# Altium footprint library USB Bridge.PcbLib: 22 footprints (part 1 of 2)
Each footprint in its own frame and in the unit in brackets; x right, y up, seen from the top. Pads: shape width x height; smd on the part's side, far side on the other; paste and mask are expansions set on the pad; w line width, h text height; cw(c..) or ccw(c..) is an arc to the next point about the centre after c.
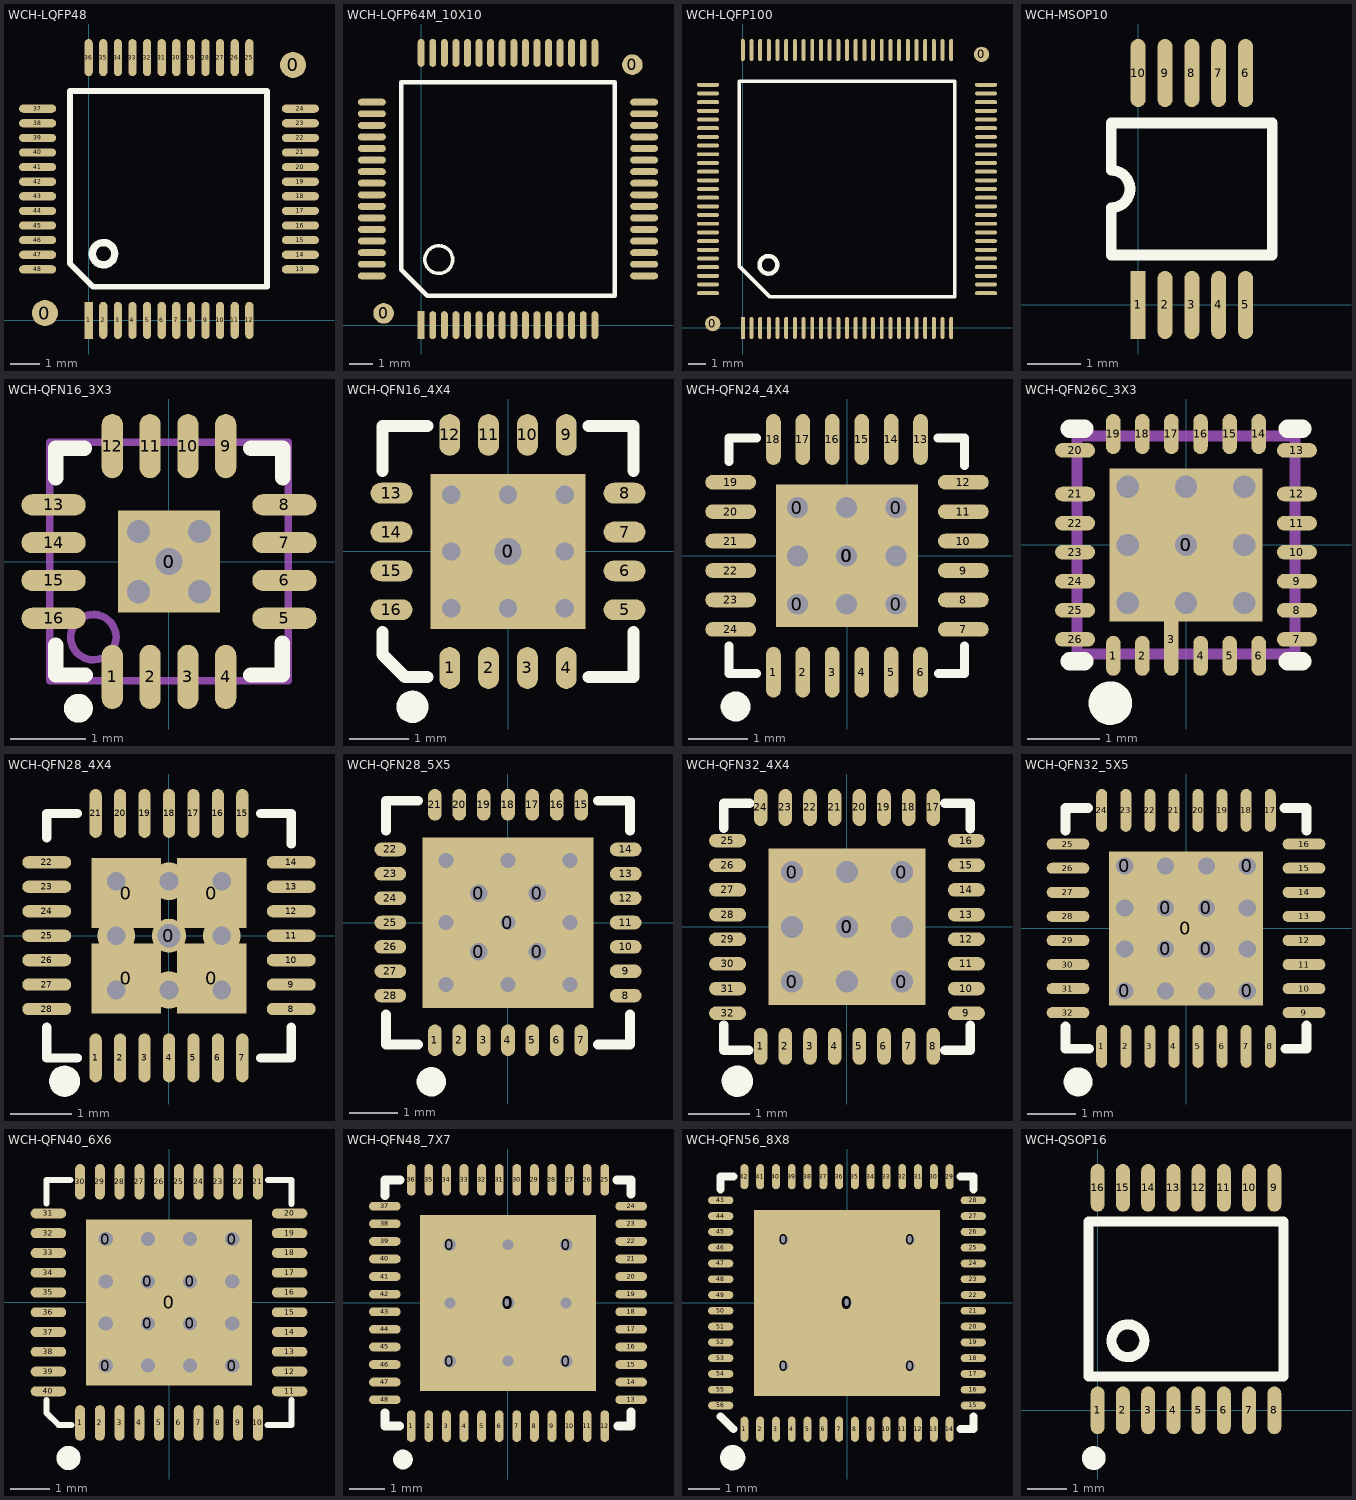
[diagram p0: the footprints below, top view; thin cyan lines are the x and y axes]

## WCH-LQFP48 [mm]
pads (50):
  round 0.889 smd: 0(-1.496,0.254) 0(6.996,8.746)
  rect 0.28x1.27 smd mask+0.051: 1(0,0)
  oval 0.28x1.27 smd mask+0.051: 2(0.5,0) 3(1,0) 4(1.5,0) 5(2,0) 6(2.5,0) 7(3,0) 8(3.5,0) 9(4,0) 10(4.5,0) 11(5,0) 12(5.5,0) 25(5.5,9) 26(5,9) 27(4.5,9) 28(4,9) 29(3.5,9) 30(3,9) 31(2.5,9) 32(2,9) 33(1.5,9) 34(1,9) 35(0.5,9) 36(0,9)
  oval 1.27x0.28 smd mask+0.051: 13(7.25,1.75) 14(7.25,2.25) 15(7.25,2.75) 16(7.25,3.25) 17(7.25,3.75) 18(7.25,4.25) 19(7.25,4.75) 20(7.25,5.25) 21(7.25,5.75) 22(7.25,6.25) 23(7.25,6.75) 24(7.25,7.25) 37(-1.75,7.25) 38(-1.75,6.75) 39(-1.75,6.25) 40(-1.75,5.75) 41(-1.75,5.25) 42(-1.75,4.75) 43(-1.75,4.25) 44(-1.75,3.75) 45(-1.75,3.25) 46(-1.75,2.75) 47(-1.75,2.25) 48(-1.75,1.75)
Top Overlay:
  circle w0.254: c0.508,2.286 r0.381
  lines w0.2: -0.646,1.947 0.148,1.154
  lines w0.203: -0.646,1.947 -0.646,7.859 6.111,7.859 6.111,1.154 0.148,1.154
3D body "LQFP48.STEP": height 1.6, standoff 0, extent -1.75,0 7.25,9

## WCH-LQFP64M_10X10 [mm]
pads (66):
  round 0.889 smd: 0(-1.619,0.508) 0(9.119,11.246)
  rect 0.3x1.2 smd mask+0.051: 1(0,0)
  oval 0.3x1.2 smd mask+0.051: 2(0.5,0) 3(1,0) 4(1.5,0) 5(2,0) 6(2.5,0) 7(3,0) 8(3.5,0) 9(4,0) 10(4.5,0) 11(5,0) 12(5.5,0) 13(6,0) 14(6.5,0) 15(7,0) 16(7.5,0) 33(7.5,11.754) 34(7,11.754) 35(6.5,11.754) 36(6,11.754) 37(5.5,11.754) 38(5,11.754) 39(4.5,11.754) 40(4,11.754) 41(3.5,11.754) 42(3,11.754) 43(2.5,11.754) 44(2,11.754) 45(1.5,11.754) 46(1,11.754) 47(0.5,11.754) 48(0,11.754)
  oval 1.2x0.3 smd mask+0.051: 17(9.627,2.127) 18(9.627,2.627) 19(9.627,3.127) 20(9.627,3.627) 21(9.627,4.127) 22(9.627,4.627) 23(9.627,5.127) 24(9.627,5.627) 25(9.627,6.127) 26(9.627,6.627) 27(9.627,7.127) 28(9.627,7.627) 29(9.627,8.127) 30(9.627,8.627) 31(9.627,9.127) 32(9.627,9.627) 49(-2.127,9.627) 50(-2.127,9.127) 51(-2.127,8.627) 52(-2.127,8.127) 53(-2.127,7.627) 54(-2.127,7.127) 55(-2.127,6.627) 56(-2.127,6.127) 57(-2.127,5.627) 58(-2.127,5.127) 59(-2.127,4.627) 60(-2.127,4.127) 61(-2.127,3.627) 62(-2.127,3.127) 63(-2.127,2.627) 64(-2.127,2.127)
Top Overlay:
  circle w0.152: c0.762,2.829 r0.6
  lines w0.2: -0.865,2.397 -0.865,10.492 8.365,10.492 8.365,1.262 0.27,1.262 -0.865,2.397
3D body "LQFP64.STEP": height 1.6, standoff 0, extent -2.25,-0.13 9.75,11.87

## WCH-LQFP100 [mm]
pads (102):
  round 0.889 smd: 0(-1.727,0.254) 0(13.746,15.748)
  rect 0.229x1.27 smd mask+0.051: 1(0,0)
  oval 0.229x1.27 smd mask+0.051: 2(0.5,0) 3(1,0) 4(1.5,0) 5(2,0) 6(2.5,0) 7(3,0) 8(3.5,0) 9(4,0) 10(4.5,0) 11(5,0) 12(5.5,0) 13(6,0) 14(6.5,0) 15(7,0) 16(7.5,0) 17(8,0) 18(8.5,0) 19(9,0) 20(9.5,0) 21(10,0) 22(10.5,0) 23(11,0) 24(11.5,0) 25(12,0) 51(12,16) 52(11.5,16) 53(11,16) 54(10.5,16) 55(10,16) 56(9.5,16) 57(9,16) 58(8.5,16) 59(8,16) 60(7.5,16) 61(7,16) 62(6.5,16) 63(6,16) 64(5.5,16) 65(5,16) 66(4.5,16) 67(4,16) 68(3.5,16) 69(3,16) 70(2.5,16) 71(2,16) 72(1.5,16) 73(1,16) 74(0.5,16) 75(0,16)
  oval 1.27x0.229 smd mask+0.051: 26(14,2) 27(14,2.5) 28(14,3) 29(14,3.5) 30(14,4) 31(14,4.5) 32(14,5) 33(14,5.5) 34(14,6) 35(14,6.5) 36(14,7) 37(14,7.5) 38(14,8) 39(14,8.5) 40(14,9) 41(14,9.5) 42(14,10) 43(14,10.5) 44(14,11) 45(14,11.5) 46(14,12) 47(14,12.5) 48(14,13) 49(14,13.5) 50(14,14) 76(-2,14) 77(-2,13.5) 78(-2,13) 79(-2,12.5) 80(-2,12) 81(-2,11.5) 82(-2,11) 83(-2,10.5) 84(-2,10) 85(-2,9.5) 86(-2,9) 87(-2,8.5) 88(-2,8) 89(-2,7.5) 90(-2,7) 91(-2,6.5) 92(-2,6) 93(-2,5.5) 94(-2,5) 95(-2,4.5) 96(-2,4) 97(-2,3.5) 98(-2,3) 99(-2,2.5) 100(-2,2)
Top Overlay:
  circle w0.254: c1.473,3.632 r0.508
  lines w0.2: -0.215,3.57 -0.215,14.215 12.215,14.215 12.215,1.785 1.57,1.785 -0.215,3.57
3D body "LQFP100.STEP": height 1.62, standoff -0.01, extent -2.072,-0.072 14.072,16.072

## WCH-MSOP10 [mil]
pads (10):
  rect 11x50 smd mask+2: 1(0,0)
  oval 11x50 smd mask+2: 2(19.68,0) 3(39.37,0) 4(59.06,0) 5(78.74,0) 6(78.74,170) 7(59.06,170) 8(39.37,170) 9(19.68,170) 10(0,170)
Top Overlay:
  lines w7.87: -19.8,36.65 98.32,36.65 98.32,133.35 -19.8,133.35 -19.8,98.78 cw(c-19.8,85) -19.8,71.22 -19.8,36.65
3D body "msop-10.step": height 45.28, standoff 0, extent -19.68,-11.81 98.43,181.1

## WCH-QFN16_3X3 [mm]
pads (18):
  rect 1.35x1.35 smd mask+0.051: 0(0,0)
  round 0.508 hole 0.356: 0(0,0)
  oval 0.28x0.85 smd mask+0.051: 1(-0.75,-1.526) 2(-0.25,-1.526) 3(0.25,-1.526) 4(0.75,-1.526) 9(0.75,1.526) 10(0.25,1.526) 11(-0.25,1.526) 12(-0.75,1.526)
  oval 0.85x0.28 smd mask+0.051: 5(1.526,-0.75) 6(1.526,-0.25) 7(1.526,0.25) 8(1.526,0.75) 13(-1.526,0.75) 14(-1.526,0.25) 15(-1.526,-0.25) 16(-1.526,-0.75)
via -0.405,-0.399 diameter 0.508 hole 0.305
via 0.405,-0.399 diameter 0.508 hole 0.305
via 0.405,0.399 diameter 0.508 hole 0.305
via -0.405,0.399 diameter 0.508 hole 0.305
Top Overlay:
  circle w0.229: c-1.198,-1.94 r0.076
  lines w0.203: -1.497,-1.108 -1.497,-1.5 -1.105,-1.5 ; -1.497,1.105 -1.497,1.5 -1.118,1.5 ; 1.079,-1.5 1.5,-1.5 1.5,-1.08 ; 1.082,1.5 1.503,1.5 1.503,1.108
Mechanical 13:
  circle w0.1: c-1,-1 r0.3
  lines w0.1: -1.575,-1.575 -1.575,1.575 1.575,1.575 1.575,-1.575 -1.575,-1.575
3D body "QFN-16_3x3.step": height 0.9, standoff 0, extent -1.501,-1.501 1.501,1.501

## WCH-QFN16_4X4 [mm]
pads (18):
  rect 2.6x2.6 smd mask+0.051: 0(0,0)
  round 0.762 hole 0.457: 0(0,0)
  oval 0.35x0.7 smd mask+0.051: 1(-0.975,-1.95) 2(-0.325,-1.95) 3(0.325,-1.95) 4(0.975,-1.95) 9(0.975,1.95) 10(0.325,1.95) 11(-0.325,1.95) 12(-0.975,1.95)
  oval 0.7x0.35 smd mask+0.051: 5(1.95,-0.975) 6(1.95,-0.325) 7(1.95,0.325) 8(1.95,0.975) 13(-1.95,0.975) 14(-1.95,0.325) 15(-1.95,-0.325) 16(-1.95,-0.975)
via 0.95,0 diameter 0.61 hole 0.305
via 0,-0.95 diameter 0.61 hole 0.305
via -0.95,0 diameter 0.61 hole 0.305
via 0,0.95 diameter 0.61 hole 0.305
via -0.95,0.95 diameter 0.61 hole 0.305
via 0.95,0.95 diameter 0.61 hole 0.305
via 0.95,-0.95 diameter 0.61 hole 0.305
via -0.95,-0.95 diameter 0.61 hole 0.305
Top Overlay:
  circle w0.3: c-1.6,-2.6 r0.12
  lines w0.203: -2.1,-1.35 -2.1,-1.725 -1.725,-2.1 -1.35,-2.1 ; -2.1,1.35 -2.1,2.1 -1.35,2.1 ; 1.35,-2.1 2.1,-2.1 2.1,-1.35 ; 1.35,2.1 2.1,2.1 2.1,1.35
3D body "qfn16-4x4.step": height 0.92, standoff 0, extent -2,-2 2,2

## WCH-QFN24_4X4 [mm]
pads (30):
  round 0.508 hole 0.356: 0(-0.844,-0.823) 0(-0.844,0.818) 0(-0.005,-0.003) 0(0.833,-0.823) 0(0.833,0.818)
  rect 2.413x2.413 smd mask+0.051: 0(0,0)
  oval 0.25x0.864 smd mask+0.051: 1(-1.25,-1.976) 2(-0.75,-1.976) 3(-0.25,-1.976) 4(0.25,-1.976) 5(0.75,-1.976) 6(1.25,-1.976) 13(1.25,1.976) 14(0.75,1.976) 15(0.25,1.976) 16(-0.25,1.976) 17(-0.75,1.976) 18(-1.25,1.976)
  oval 0.864x0.25 smd mask+0.051: 7(1.976,-1.25) 8(1.976,-0.75) 9(1.976,-0.25) 10(1.976,0.25) 11(1.976,0.75) 12(1.976,1.25) 19(-1.976,1.25) 20(-1.976,0.75) 21(-1.976,0.25) 22(-1.976,-0.25) 23(-1.976,-0.75) 24(-1.976,-1.25)
via 0.833,-0.003 diameter 0.508 hole 0.356
via -0.005,-0.823 diameter 0.508 hole 0.356
via -0.844,-0.003 diameter 0.508 hole 0.356
via -0.005,0.818 diameter 0.508 hole 0.356
Top Overlay:
  circle w0.254: c-1.892,-2.56 r0.127
  lines w0.152: -2.006,-1.535 -2.006,-2 -1.537,-2 ; -2.006,1.6 -2.006,2 -1.536,2 ; 1.541,2 1.994,2 1.994,1.534 ; 1.551,-2 1.994,-2 1.994,-1.535
3D body "QFN 24 4x4.step": height 0.9, standoff 0, extent -2.002,-2.002 2.002,2.002

## WCH-QFN26C_3X3 [mm]
pads (28):
  rect 2.1x2.1 smd mask+0.051: 0(0,0)
  round 0.6 hole 0.3 mask+0.051: 0(0,0)
  oval 0.2x0.55 smd mask+0.051: 1(-1,-1.525) 2(-0.6,-1.525) 4(0.2,-1.525) 5(0.6,-1.525) 6(1,-1.525) 14(1,1.525) 15(0.6,1.525) 16(0.2,1.525) 17(-0.2,1.525) 18(-0.6,1.525) 19(-1,1.525)
  oval 0.2x1 smd mask+0.051: 3(-0.2,-1.3)
  oval 0.55x0.2 smd mask+0.051: 7(1.525,-1.3) 8(1.525,-0.9) 9(1.525,-0.5) 10(1.525,-0.1) 11(1.525,0.3) 12(1.525,0.7) 13(1.525,1.3) 20(-1.525,1.3) 21(-1.525,0.7) 22(-1.525,0.3) 23(-1.525,-0.1) 24(-1.525,-0.5) 25(-1.525,-0.9) 26(-1.525,-1.3)
via -0.8,0 diameter 0.508 hole 0.305
via -0.8,-0.8 diameter 0.508 hole 0.305
via 0,-0.8 diameter 0.508 hole 0.305
via 0.8,-0.8 diameter 0.508 hole 0.305
via 0.8,0 diameter 0.508 hole 0.305
via 0.8,0.8 diameter 0.508 hole 0.305
via 0,0.8 diameter 0.508 hole 0.305
via -0.8,0.8 diameter 0.508 hole 0.305
Top Overlay:
  circle w0.3: c-1.04,-2.175 r0.15
  lines w0.254: -1.6,-1.6 -1.4,-1.6 ; -1.6,1.6 -1.4,1.6 ; 1.4,-1.6 1.6,-1.6 ; 1.4,1.6 1.6,1.6
Mechanical 15:
  lines w0.15: -1.5,-1.5 1.5,-1.5 1.5,1.5 -1.5,1.5 -1.5,-1.5
3D body "QFN-26C_3x3.STEP": height 0.75, standoff 0, extent -1.51,-1.51 1.51,1.51

## WCH-QFN28_4X4 [mm]
pads (33):
  rect 1.143x1.143 smd mask+0: 0(-0.699,-0.699) 0(-0.699,0.698) 0(0.699,-0.699) 0(0.699,0.698)
  round 0.559 hole 0.381 mask+0.051: 0(0,0)
  oval 0.2x0.8 smd mask+0.051: 1(-1.2,-2) 2(-0.8,-2) 3(-0.4,-2) 4(0,-2) 5(0.4,-2) 6(0.8,-2) 7(1.2,-2) 15(1.2,2) 16(0.8,2) 17(0.4,2) 18(0,2) 19(-0.4,2) 20(-0.8,2) 21(-1.2,2)
  oval 0.8x0.2 smd mask+0.051: 8(2,-1.2) 9(2,-0.8) 10(2,-0.4) 11(2,0) 12(2,0.4) 13(2,0.8) 14(2,1.2) 22(-2,1.2) 23(-2,0.8) 24(-2,0.4) 25(-2,0) 26(-2,-0.4) 27(-2,-0.8) 28(-2,-1.2)
via 0,0.889 diameter 0.61 hole 0.305
via 0,-0.889 diameter 0.61 hole 0.305
via 0.864,0 diameter 0.61 hole 0.305
via -0.864,0 diameter 0.61 hole 0.305
via -0.864,0.889 diameter 0.61 hole 0.305
via 0.864,0.889 diameter 0.61 hole 0.305
via 0.864,-0.889 diameter 0.61 hole 0.305
via -0.864,-0.889 diameter 0.61 hole 0.305
Top Overlay:
  circle w0.254: c-1.708,-2.381 r0.127
  lines w0.152: -2,-1.5 -2,-2 -1.5,-2 ; -2,1.6 -2,2 -1.5,2 ; 1.5,-2 2,-2 2,-1.5 ; 1.5,2 2,2 2,1.5
3D body "QFN28-4x4.STEP": height 0.75, standoff 0, extent -2,-2 2,2

## WCH-QFN28_5X5 [mm]
pads (33):
  round 0.508 hole 0.356: 0(-0.6,-0.6) 0(-0.6,0.6) 0(0.6,-0.6) 0(0.6,0.6)
  rect 3.5x3.5 smd mask+0.051: 0(0,0)
  oval 0.28x0.65 smd mask+0.051: 1(-1.5,-2.416) 2(-1,-2.416) 3(-0.5,-2.416) 4(0,-2.416) 5(0.5,-2.416) 6(1,-2.416) 7(1.5,-2.416) 15(1.5,2.416) 16(1,2.416) 17(0.5,2.416) 18(0,2.416) 19(-0.5,2.416) 20(-1,2.416) 21(-1.5,2.416)
  oval 0.65x0.28 smd mask+0.051: 8(2.416,-1.5) 9(2.416,-1) 10(2.416,-0.5) 11(2.416,0) 12(2.416,0.5) 13(2.416,1) 14(2.416,1.5) 22(-2.416,1.5) 23(-2.416,1) 24(-2.416,0.5) 25(-2.416,0) 26(-2.416,-0.5) 27(-2.416,-1) 28(-2.416,-1.5)
via 0,0 diameter 0.61 hole 0.305
via -1.27,1.27 diameter 0.61 hole 0.305
via -1.27,0 diameter 0.61 hole 0.305
via -1.27,-1.27 diameter 0.61 hole 0.305
via 0,-1.27 diameter 0.61 hole 0.305
via 1.27,-1.27 diameter 0.61 hole 0.305
via 1.27,0 diameter 0.61 hole 0.305
via 1.27,1.27 diameter 0.61 hole 0.305
via 0,1.27 diameter 0.61 hole 0.305
Top Overlay:
  circle w0.305: c-1.573,-3.268 r0.148
  lines w0.203: -2.5,-1.885 -2.5,-2.5 -1.85,-2.5 ; -2.5,1.885 -2.5,2.5 -1.85,2.5 ; 1.85,-2.5 2.5,-2.5 2.5,-1.885 ; 1.85,2.5 2.5,2.5 2.5,1.885
3D body "QFN28-X5.STEP": height 1, standoff 0, extent -2.5,-2.5 2.5,2.5

## WCH-QFN32_4X4 [mm]
pads (38):
  round 0.508 hole 0.356: 0(-0.889,-0.887) 0(-0.889,0.887) 0(0,0) 0(0.889,-0.887) 0(0.889,0.887)
  rect 2.54x2.54 smd mask+0.051: 0(0,0)
  oval 0.22x0.6 smd mask+0.051: 1(-1.4,-1.936) 2(-1,-1.936) 3(-0.6,-1.936) 4(-0.2,-1.936) 5(0.2,-1.936) 6(0.6,-1.936) 7(1,-1.936) 8(1.4,-1.936) 17(1.4,1.936) 18(1,1.936) 19(0.6,1.936) 20(0.2,1.936) 21(-0.2,1.936) 22(-0.6,1.936) 23(-1,1.936) 24(-1.4,1.936)
  oval 0.6x0.22 smd mask+0.051: 9(1.936,-1.4) 10(1.936,-1) 11(1.936,-0.6) 12(1.936,-0.2) 13(1.936,0.2) 14(1.936,0.6) 15(1.936,1) 16(1.936,1.4) 25(-1.936,1.4) 26(-1.936,1) 27(-1.936,0.6) 28(-1.936,0.2) 29(-1.936,-0.2) 30(-1.936,-0.6) 31(-1.936,-1) 32(-1.936,-1.4)
via 0.889,0 diameter 0.508 hole 0.356
via 0,-0.887 diameter 0.508 hole 0.356
via -0.889,0 diameter 0.508 hole 0.356
via 0,0.887 diameter 0.508 hole 0.356
Top Overlay:
  circle w0.254: c-1.78,-2.502 r0.127
  lines w0.152: -2.001,-1.591 -2.001,-1.998 -1.595,-1.998 ; -2.001,1.602 -2.001,2.002 -1.574,2.002 ; 1.583,2.002 1.999,2.002 1.999,1.59 ; 1.585,-1.998 1.999,-1.998 1.999,-1.593
3D body "QFN32-4x4.STEP": height 1.01, standoff 0.01, extent -2.005,-2.005 2.005,2.005

## WCH-QFN32_5X5 [mil]
pads (41):
  round 20 hole 14: 0(-50.12,-51.11) 0(-50.12,51.11) 0(-16.71,-16.7) 0(-16.71,16.7) 0(16.71,-16.7) 0(16.71,16.7) 0(50.12,-51.11) 0(50.12,51.11)
  rect 125.98x125.98 smd mask+2: 0(0,0)
  oval 9x35 smd mask+2: 1(-68.9,-96.49) 2(-49.21,-96.49) 3(-29.53,-96.49) 4(-9.84,-96.49) 5(9.84,-96.49) 6(29.53,-96.49) 7(49.21,-96.49) 8(68.9,-96.49) 17(68.9,96.49) 18(49.21,96.49) 19(29.53,96.49) 20(9.84,96.49) 21(-9.84,96.49) 22(-29.53,96.49) 23(-49.21,96.49) 24(-68.9,96.49)
  oval 35x9 smd mask+2: 9(96.49,-68.9) 10(96.49,-49.21) 11(96.49,-29.53) 12(96.49,-9.84) 13(96.49,9.84) 14(96.49,29.53) 15(96.49,49.21) 16(96.49,68.9) 25(-96.49,68.9) 26(-96.49,49.21) 27(-96.49,29.53) 28(-96.49,9.84) 29(-96.49,-9.84) 30(-96.49,-29.53) 31(-96.49,-49.21) 32(-96.49,-68.9)
via -16.71,51.11 diameter 20 hole 14
via 16.71,51.11 diameter 20 hole 14
via 50.12,16.7 diameter 20 hole 14
via 50.12,-16.7 diameter 20 hole 14
via 16.71,-51.11 diameter 20 hole 14
via -16.71,-51.11 diameter 20 hole 14
via -50.12,-16.7 diameter 20 hole 14
via -50.12,16.7 diameter 20 hole 14
Top Overlay:
  circle w12: c-88.22,-125.47 r5.84
  lines w8: -98.43,-80.19 -98.43,-98.43 -79.38,-98.43 ; -98.43,79.88 -98.43,98.43 -80.12,98.43 ; 80.43,98.43 98.42,98.43 98.42,79.79 ; 81.23,-98.43 98.42,-98.43 98.42,-79.42
3D body "QFN32-5x5.step": height 32.68, standoff -3.94, extent -98.43,-98.44 98.43,98.44

## WCH-QFN40_6X6 [mm]
pads (49):
  round 0.508 hole 0.356 mask+0.102: 0(-1.6,-1.6) 0(-1.6,1.6) 0(-0.533,-0.533) 0(-0.533,0.533) 0(0.533,-0.533) 0(0.533,0.533) 0(1.6,-1.6) 0(1.6,1.6)
  rect 4.2x4.2 smd mask+0.051: 0(0,0)
  oval 0.25x0.9 smd mask+0.051: 1(-2.25,-3.05) 2(-1.75,-3.05) 3(-1.25,-3.05) 4(-0.75,-3.05) 5(-0.25,-3.05) 6(0.25,-3.05) 7(0.75,-3.05) 8(1.25,-3.05) 9(1.75,-3.05) 10(2.25,-3.05) 21(2.25,3.05) 22(1.75,3.05) 23(1.25,3.05) 24(0.75,3.05) 25(0.25,3.05) 26(-0.25,3.05) 27(-0.75,3.05) 28(-1.25,3.05) 29(-1.75,3.05) 30(-2.25,3.05)
  oval 0.9x0.25 smd mask+0.051: 11(3.05,-2.25) 12(3.05,-1.75) 13(3.05,-1.25) 14(3.05,-0.75) 15(3.05,-0.25) 16(3.05,0.25) 17(3.05,0.75) 18(3.05,1.25) 19(3.05,1.75) 20(3.05,2.25) 31(-3.05,2.25) 32(-3.05,1.75) 33(-3.05,1.25) 34(-3.05,0.75) 35(-3.05,0.25) 36(-3.05,-0.25) 37(-3.05,-0.75) 38(-3.05,-1.25) 39(-3.05,-1.75) 40(-3.05,-2.25)
via -1.6,-0.533 diameter 0.508 hole 0.356
via -1.6,0.533 diameter 0.508 hole 0.356
via -0.533,-1.6 diameter 0.508 hole 0.356
via 0.533,-1.6 diameter 0.508 hole 0.356
via 1.6,-0.533 diameter 0.508 hole 0.356
via 1.6,0.533 diameter 0.508 hole 0.356
via 0.533,1.6 diameter 0.508 hole 0.356
via -0.533,1.6 diameter 0.508 hole 0.356
Top Overlay:
  circle w0.305: c-2.541,-3.936 r0.152
  lines w0.152: -3.1,-2.79 -3.1,-2.794 ; -3.1,-2.466 -3.1,-2.794 ; -3.1,2.501 -3.1,3.1 -2.493,3.1 ; -2.467,-3.1 -2.794,-3.1 -3.1,-2.794 ; 2.491,-3.1 3.1,-3.1 3.1,-2.476 ; 2.502,3.1 3.1,3.1 3.1,2.484
3D body "QFN40X6.step": height 0.8, standoff 0, extent -3,-3 3,3

## WCH-QFN48_7X7 [mm]
pads (54):
  round 0.559 hole 0.356 mask+0.102: 0(-1.651,-1.651) 0(-1.651,1.651) 0(0,0) 0(1.651,-1.651) 0(1.651,1.651)
  rect 5x5 smd mask+0.051: 0(0,0)
  oval 0.25x0.9 smd mask+0.051: 1(-2.75,-3.5) 2(-2.25,-3.5) 3(-1.75,-3.5) 4(-1.25,-3.5) 5(-0.75,-3.5) 6(-0.25,-3.5) 7(0.25,-3.5) 8(0.75,-3.5) 9(1.25,-3.5) 10(1.75,-3.5) 11(2.25,-3.5) 12(2.75,-3.5) 25(2.75,3.5) 26(2.25,3.5) 27(1.75,3.5) 28(1.25,3.5) 29(0.75,3.5) 30(0.25,3.5) 31(-0.25,3.5) 32(-0.75,3.5) 33(-1.25,3.5) 34(-1.75,3.5) 35(-2.25,3.5) 36(-2.75,3.5)
  oval 0.9x0.25 smd mask+0.051: 13(3.5,-2.75) 14(3.5,-2.25) 15(3.5,-1.75) 16(3.5,-1.25) 17(3.5,-0.75) 18(3.5,-0.25) 19(3.5,0.25) 20(3.5,0.75) 21(3.5,1.25) 22(3.5,1.75) 23(3.5,2.25) 24(3.5,2.75) 37(-3.5,2.75) 38(-3.5,2.25) 39(-3.5,1.75) 40(-3.5,1.25) 41(-3.5,0.75) 42(-3.5,0.25) 43(-3.5,-0.25) 44(-3.5,-0.75) 45(-3.5,-1.25) 46(-3.5,-1.75) 47(-3.5,-2.25) 48(-3.5,-2.75)
via 0,-1.651 diameter 0.61 hole 0.305
via 1.651,0 diameter 0.61 hole 0.305
via 0,1.651 diameter 0.61 hole 0.305
via -1.651,0 diameter 0.61 hole 0.305
Top Overlay:
  circle w0.305: c-2.986,-4.451 r0.127
  lines w0.254: -3.5,-3.128 -3.5,-3.5 -3.082,-3.5 ; -3.5,3.057 -3.5,3.5 -3.066,3.5 ; 3.099,3.5 3.5,3.5 3.5,3.096 ; 3.126,-3.5 3.5,-3.5 3.5,-3.104
3D body "QFN48_7x7.step": height 0.78, standoff -0.02, extent -3.51,-3.51 3.51,3.51

## WCH-QFN56_8X8 [mm]
pads (62):
  round 0.61 hole 0.305 mask+0.051: 0(-2,-2) 0(-2,2) 0(0,0) 0(2,-2) 0(2,2)
  rect 5.9x5.9 smd mask+0.051: 0(0,0)
  oval 0.25x0.8 smd mask+0.051: 1(-3.25,-4) 2(-2.75,-4) 3(-2.25,-4) 4(-1.75,-4) 5(-1.25,-4) 6(-0.75,-4) 7(-0.25,-4) 8(0.25,-4) 9(0.75,-4) 10(1.25,-4) 11(1.75,-4) 12(2.25,-4) 13(2.75,-4) 14(3.25,-4) 29(3.25,4) 30(2.75,4) 31(2.25,4) 32(1.75,4) 33(1.25,4) 34(0.75,4) 35(0.25,4) 36(-0.25,4) 37(-0.75,4) 38(-1.25,4) 39(-1.75,4) 40(-2.25,4) 41(-2.75,4) 42(-3.25,4)
  oval 0.8x0.25 smd mask+0.051: 15(4,-3.25) 16(4,-2.75) 17(4,-2.25) 18(4,-1.75) 19(4,-1.25) 20(4,-0.75) 21(4,-0.25) 22(4,0.25) 23(4,0.75) 24(4,1.25) 25(4,1.75) 26(4,2.25) 27(4,2.75) 28(4,3.25) 43(-4,3.25) 44(-4,2.75) 45(-4,2.25) 46(-4,1.75) 47(-4,1.25) 48(-4,0.75) 49(-4,0.25) 50(-4,-0.25) 51(-4,-0.75) 52(-4,-1.25) 53(-4,-1.75) 54(-4,-2.25) 55(-4,-2.75) 56(-4,-3.25)
Top Overlay:
  circle w0.4: c-3.621,-4.903 r0.2
  lines w0.254: -4,-3.6 -3.6,-4 ; -4,3.6 -4,4 -3.6,4 ; 3.6,-4 4,-4 4,-3.6 ; 3.6,4 4,4 4,3.6
3D body "QFN56X8.step": height 0.9, standoff 0, extent -4.005,-4.005 4.005,4.005

## WCH-QSOP16 [mm]
pads (16):
  oval 0.35x1.2 smd mask+0.051: 1(0,0) 2(0.635,0) 3(1.27,0) 4(1.905,0) 5(2.54,0) 6(3.175,0) 7(3.81,0) 8(4.445,0) 9(4.445,5.6) 10(3.81,5.6) 11(3.175,5.6) 12(2.54,5.6) 13(1.905,5.6) 14(1.27,5.6) 15(0.635,5.6) 16(0,5.6)
Top Overlay:
  circle w0.3: c-0.1,-1.2 r0.15
  circle w0.254: c0.762,1.752 r0.412
  lines w0.254: -0.227,0.85 -0.227,4.75 4.673,4.75 4.673,0.85 -0.227,0.85
3D body "QSOP16.step": height 1.78, standoff 0.01, extent -0.26,-0.16 4.72,5.86